# Altium integrated library LMC6484AIN.IntLib: 1 symbol
Pins are listed as number, name and electrical type; pins without a type are passive.

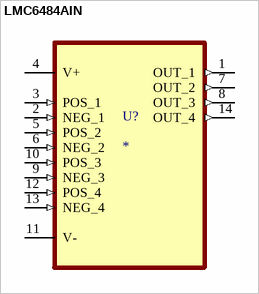
[diagram p0: symbol LMC6484AIN]

## LMC6484AIN
designator U?
General Purpose Amplifier 4 Circuit Rail-to-Rail 14-DIP; MP: LMC6484AIN; MF: Texas Instruments; Price: None; Availability: Bad; Check_prices: https://www.snapeda.com/parts/LMC6484AIN/Texas%20Instruments/view-part/185372/?ref=eda; Package: DIP-14 Texas Instruments; SnapEDA_Link: https://www.snapeda.com/parts/LMC6484AIN/Texas%20Instruments/view-part/185372/?ref=snap; Value: *; Purchase-URL: https://pricing.snapeda.com/search/part/LMC6484AIN/?ref=eda
footprint DIP254P762X508-14
pins: 1 OUT_1 (out), 2 NEG_1 (in), 3 POS_1 (in), 4 V+ (power), 5 POS_2 (in), 6 NEG_2 (in), 7 OUT_2 (out), 8 OUT_3 (out), 9 NEG_3 (in), 10 POS_3 (in), 11 V- (power), 12 POS_4 (in), 13 NEG_4 (in), 14 OUT_4 (out)